# Altium schematic symbol library Self_establish.SchLib: 4 symbols
Pins are listed as number, name and electrical type; pins without a type are passive.

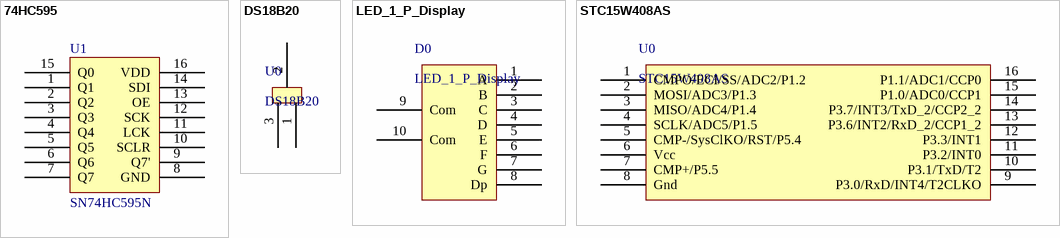
[diagram p0: symbols 74HC595 to STC15W408AS]

## 74HC595
designator U1, comment SN74HC595N
pins: 1 Q1, 2 Q2, 3 Q3, 4 Q4, 5 Q5, 6 Q6, 7 Q7, 8 GND, 9 Q7', 10 SCLR, 11 LCK, 12 SCK, 13 OE, 14 SDI, 15 Q0, 16 VDD

## DS18B20
designator U0
pins: 1 GND, 2 DQ, 3 VDD

## LED_1_P_Display
designator D0
共阳一位
pins: 1 A, 2 B, 3 C, 4 D, 5 E, 6 F, 7 G, 8 Dp, 9 Com, 10 Com

## STC15W408AS
designator U0
pins: 1 CMPO/ECI/SS/ADC2/P1.2, 2 MOSI/ADC3/P1.3, 3 MISO/ADC4/P1.4, 4 SCLK/ADC5/P1.5, 5 CMP-/SysClKO/RST/P5.4, 6 Vcc (power), 7 CMP+/P5.5, 8 Gnd (power), 9 P3.0/RxD/INT4/T2CLKO, 10 P3.1/TxD/T2, 11 P3.2/INT0, 12 P3.3/INT1, 13 P3.6/INT2/RxD_2/CCP1_2, 14 P3.7/INT3/TxD_2/CCP2_2, 15 P1.0/ADC0/CCP1, 16 P1.1/ADC1/CCP0